# Altium schematic symbol library IRLB8748PBF.SchLib: 1 symbol
Pins are listed as number, name and electrical type; pins without a type are passive.

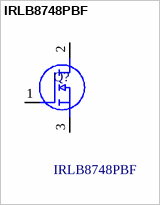
[diagram p0: symbol IRLB8748PBF]

## IRLB8748PBF
designator Q?
INFINEON - IRLB8748PBF - MOSFET Transistor, N Channel, 40 A, 30 V, 0.0038 ohm, 10 V, 1.8 V; Geometry.Height: 4.83mm; Manufacturer_Name: Infineon; Manufacturer_Part_Number: IRLB8748PBF; Mouser Part Number: 942-IRLB8748PBF; Mouser Price/Stock: https://www.mouser.co.uk/ProductDetail/Infineon-Technologies/IRLB8748PBF?qs=9%252BKlkBgLFf3gv5ktjzjOKQ%3D%3D; Arrow Part Number: IRLB8748PBF; Arrow Price/Stock: https://www.arrow.com/en/products/irlb8748pbf/infineon-technologies-ag?region=europe; Datasheet Link: https://ms.componentsearchengine.com/Datasheets/2/IRLB8748PBF.pdf
footprint TO254P483X1016X1994-3P
pins: 1 G, 2 D, 3 S